# Altium footprint library MODULE_ESP32-DEVKITC-32E.PcbLib: 1 footprints
Each footprint in its own frame and in the unit in brackets; x right, y up, seen from the top. Pads: shape width x height; smd on the part's side, far side on the other; paste and mask are expansions set on the pad; w line width, h text height; cw(c..) or ccw(c..) is an arc to the next point about the centre after c.
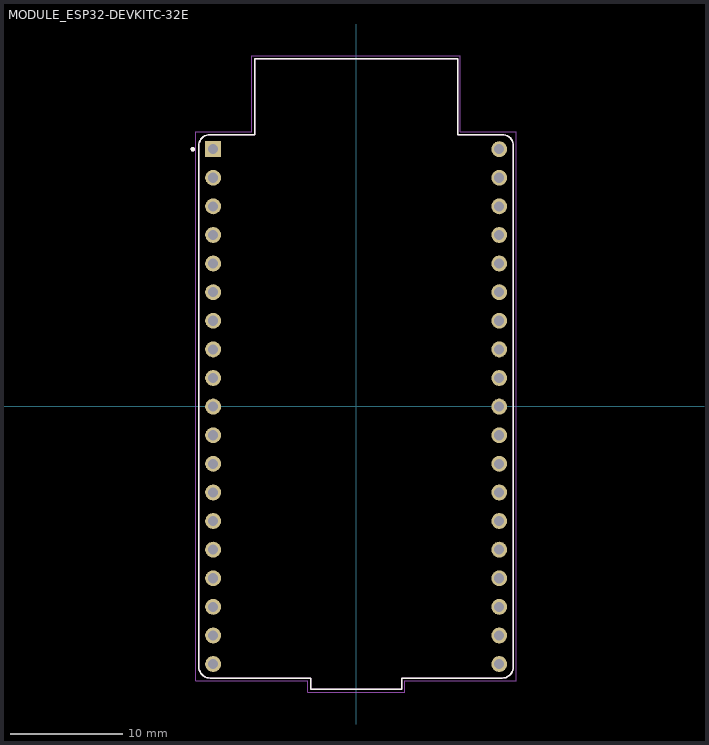
[diagram p0: the footprint, top view; thin cyan lines are the x and y axes]

## MODULE_ESP32-DEVKITC-32E [mm]
pads (38):
  rect 1.408x1.408 / inner round 1.408 / far side rect 1.408x1.408 hole 0.9: J2_1(-12.7,22.835)
  round 1.408 hole 0.9: J2_2(-12.7,20.295) J2_3(-12.7,17.755) J2_4(-12.7,15.215) J2_5(-12.7,12.675) J2_6(-12.7,10.135) J2_7(-12.7,7.595) J2_8(-12.7,5.055) J2_9(-12.7,2.515) J2_10(-12.7,-0.025) J2_11(-12.7,-2.565) J2_12(-12.7,-5.105) J2_13(-12.7,-7.645) J2_14(-12.7,-10.185) J2_15(-12.7,-12.725) J2_16(-12.7,-15.265) J2_17(-12.7,-17.805) J2_18(-12.7,-20.345) J2_19(-12.7,-22.885) J3_1(12.7,22.835) J3_2(12.7,20.295) J3_3(12.7,17.755) J3_4(12.7,15.215) J3_5(12.7,12.675) J3_6(12.7,10.135) J3_7(12.7,7.595) J3_8(12.7,5.055) J3_9(12.7,2.515) J3_10(12.7,-0.025) J3_11(12.7,-2.565) J3_12(12.7,-5.105) J3_13(12.7,-7.645) J3_14(12.7,-10.185) J3_15(12.7,-12.725) J3_16(12.7,-15.265) J3_17(12.7,-17.805) J3_18(12.7,-20.345) J3_19(12.7,-22.885)
Top Overlay:
  circle w0.2: c-14.5,22.835 r0.1
  lines w0.127: -13.97,-23.13 ccw(c-12.97,-23.13) -12.97,-24.13 -4.05,-24.13 -4.05,-25.13 4.05,-25.13 4.05,-24.13 12.97,-24.13 ccw(c12.97,-23.13) 13.97,-23.13 13.97,23.13 ccw(c12.97,23.13) 12.97,24.13 9,24.13 9,30.87 -9,30.87 -9,24.13 -12.97,24.13 ccw(c-12.97,23.13) -13.97,23.13 -13.97,-23.13
Assembly Top:
  circle w0.2: c-14.5,22.835 r0.1
  lines w0.127: -13.97,-23.13 ccw(c-12.97,-23.13) -12.97,-24.13 -4.05,-24.13 -4.05,-25.13 4.05,-25.13 4.05,-24.13 12.97,-24.13 ccw(c12.97,-23.13) 13.97,-23.13 13.97,23.13 ccw(c12.97,23.13) 12.97,24.13 9,24.13 9,30.87 -9,30.87 -9,24.13 -12.97,24.13 ccw(c-12.97,23.13) -13.97,23.13 -13.97,-23.13
Courtyard Top:
  lines w0.05: -14.22,-24.38 -4.3,-24.38 -4.3,-25.38 4.3,-25.38 4.3,-24.38 14.22,-24.38 14.22,24.38 9.25,24.38 9.25,31.12 -9.25,31.12 -9.25,24.38 -14.22,24.38 -14.22,-24.38